# Altium footprint library OSC-QSMD2.0x1.6x0.55.PcbLib: 1 footprints
Each footprint in its own frame and in the unit in brackets; x right, y up, seen from the top. Pads: shape width x height; smd on the part's side, far side on the other; paste and mask are expansions set on the pad; w line width, h text height; cw(c..) or ccw(c..) is an arc to the next point about the centre after c.
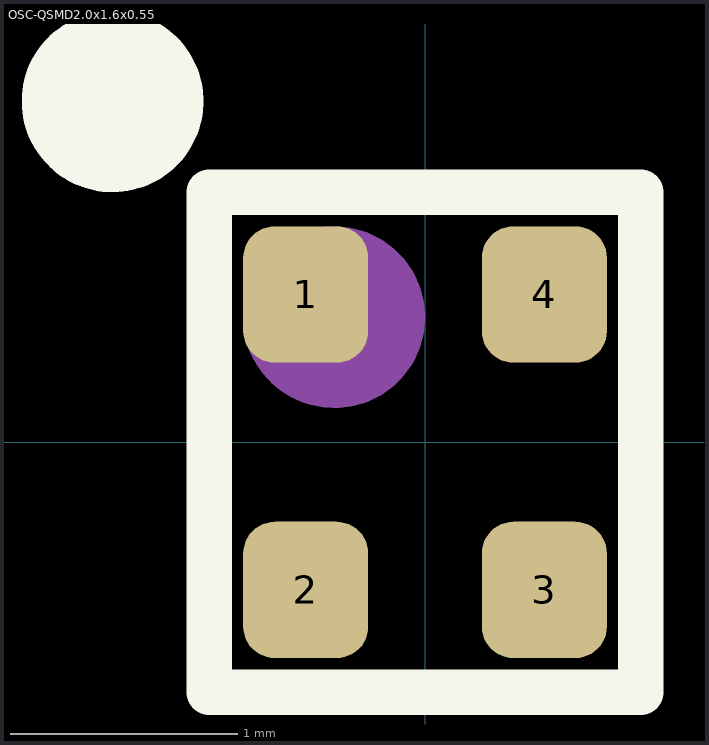
[diagram p0: the footprint, top view; thin cyan lines are the x and y axes]

## OSC-QSMD2.0x1.6x0.55 [mm]
pads (4):
  rrect50% 0.55x0.6 smd paste+0 mask+0.05: 1(-0.525,0.65) 2(-0.525,-0.65) 3(0.525,-0.65) 4(0.525,0.65)
Top Overlay:
  circle w0.4: c-1.375,1.5 r0.2
  lines w0.2: -0.95,-1.1 0.95,-1.1 0.95,1.1 -0.95,1.1 -0.95,-1.1
Top Assembly:
  circle w0.4: c-0.4,0.55 r0.2
  lines w0.1: -0.95,-1.1 -0.95,1.1 0.95,1.1 0.95,-1.1 -0.95,-1.1
  text "'.Designator'" at -0.95,1.4 h0.7
3D body "User Library-NT2016SA-END4910A-48MHZ Crystal (NDK).step": height 0.7, standoff 0, extent -0.8,-1 0.8,1